# Altium footprint library PcbLib1.PcbLib: 264 footprints (part 10 of 17)
Each footprint in its own frame and in the unit in brackets; x right, y up, seen from the top. Pads: shape width x height; smd on the part's side, far side on the other; paste and mask are expansions set on the pad; w line width, h text height; cw(c..) or ccw(c..) is an arc to the next point about the centre after c.
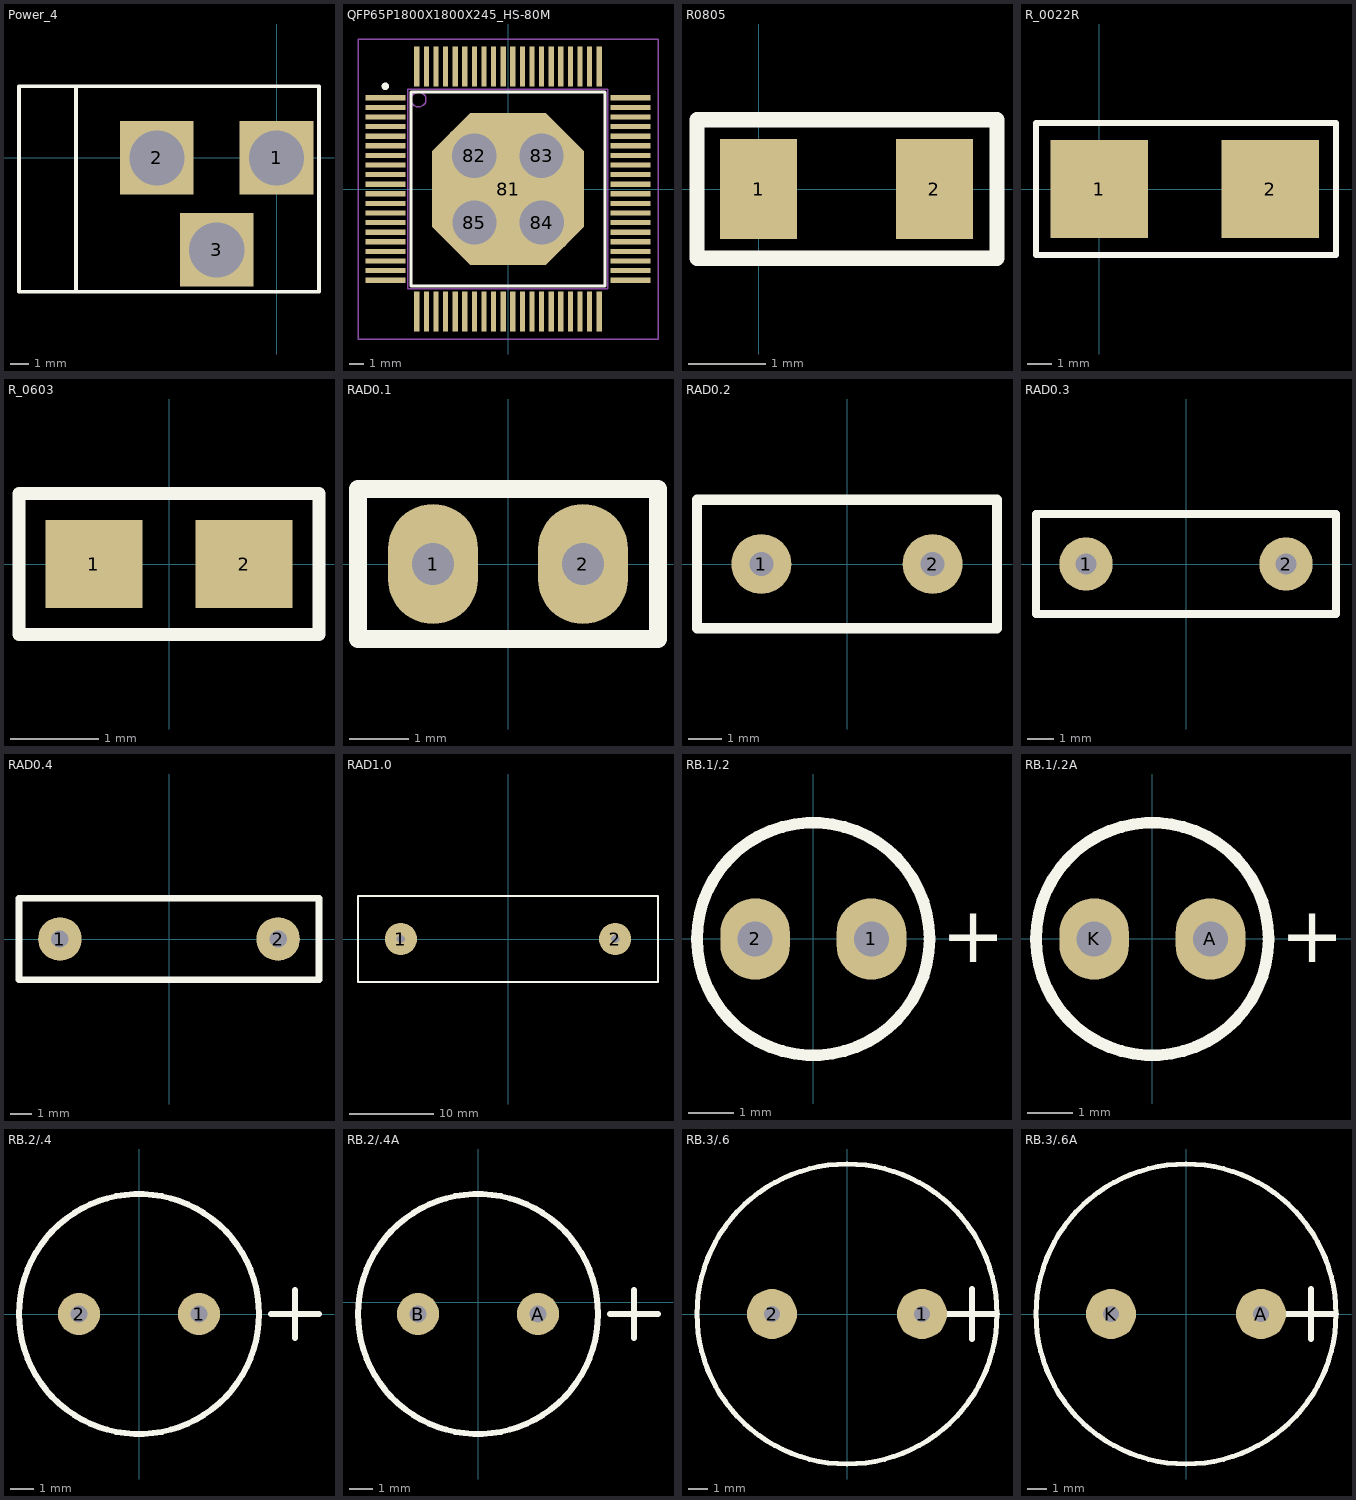
[diagram p9: the footprints below, top view; thin cyan lines are the x and y axes]

## Power_4 [mm]
pads (3):
  rect 4x4 hole 3: 1(0,0) 2(-6.5,0) 3(-3.25,-5)
Top Overlay:
  lines w0.2: -10.9,-7.27 -10.9,3.89 ; -14,-7.27 -14,3.89 2.31,3.89 2.31,-7.27 -14,-7.27

## QFP65P1800X1800X245_HS-80M [mm] "QFP, 80-Leads, Body 18.0x18.0mm (max), Pitch 0.65mm, IPC Low Density"
height 2.45
pads (85):
  rect 2.7x0.35 smd: 1(-8.3,6.175) 2(-8.3,5.525) 3(-8.3,4.875) 4(-8.3,4.225) 5(-8.3,3.575) 6(-8.3,2.925) 7(-8.3,2.275) 8(-8.3,1.625) 9(-8.3,0.975) 10(-8.3,0.325) 11(-8.3,-0.325) 12(-8.3,-0.975) 13(-8.3,-1.625) 14(-8.3,-2.275) 15(-8.3,-2.925) 16(-8.3,-3.575) 17(-8.3,-4.225) 18(-8.3,-4.875) 19(-8.3,-5.525) 20(-8.3,-6.175) 41(8.3,-6.175) 42(8.3,-5.525) 43(8.3,-4.875) 44(8.3,-4.225) 45(8.3,-3.575) 46(8.3,-2.925) 47(8.3,-2.275) 48(8.3,-1.625) 49(8.3,-0.975) 50(8.3,-0.325) 51(8.3,0.325) 52(8.3,0.975) 53(8.3,1.625) 54(8.3,2.275) 55(8.3,2.925) 56(8.3,3.575) 57(8.3,4.225) 58(8.3,4.875) 59(8.3,5.525) 60(8.3,6.175)
  rect 0.35x2.7 smd: 21(-6.175,-8.3) 22(-5.525,-8.3) 23(-4.875,-8.3) 24(-4.225,-8.3) 25(-3.575,-8.3) 26(-2.925,-8.3) 27(-2.275,-8.3) 28(-1.625,-8.3) 29(-0.975,-8.3) 30(-0.325,-8.3) 31(0.325,-8.3) 32(0.975,-8.3) 33(1.625,-8.3) 34(2.275,-8.3) 35(2.925,-8.3) 36(3.575,-8.3) 37(4.225,-8.3) 38(4.875,-8.3) 39(5.525,-8.3) 40(6.175,-8.3) 61(6.175,8.3) 62(5.525,8.3) 63(4.875,8.3) 64(4.225,8.3) 65(3.575,8.3) 66(2.925,8.3) 67(2.275,8.3) 68(1.625,8.3) 69(0.975,8.3) 70(0.325,8.3) 71(-0.325,8.3) 72(-0.975,8.3) 73(-1.625,8.3) 74(-2.275,8.3) 75(-2.925,8.3) 76(-3.575,8.3) 77(-4.225,8.3) 78(-4.875,8.3) 79(-5.525,8.3) 80(-6.175,8.3)
  oct 10.3x10.3 smd: 81(0,0)
  round 4.5 hole 3: 82(-2.28,2.25) 83(2.27,2.24) 84(2.28,-2.27) 85(-2.27,-2.27)
Top Overlay:
  circle w0.25: c-8.3,6.95 r0.125
  lines w0.2: -6.55,-6.55 6.55,-6.55 6.55,6.55 -6.55,6.55 -6.55,-6.55
Mechanical 13:
  circle w0.1: c-6.05,6.05 r0.5
  lines w0.1: -6.77,-6.75 6.75,-6.75 6.75,6.75 -6.77,6.75 -6.77,-6.75
Mechanical 15:
  lines w0.1: -0.5,0 0.5,0 ; 0,-0.5 0,0.5 ; -10.15,-10.15 10.15,-10.15 10.15,10.15 -10.15,10.15 -10.15,-10.15
3D body: height 2.45, standoff 0.25, extent -7,-7 7,7

## R0805 [mm]
pads (2):
  rect 1x1.3 smd: 1(0,0) 2(2.286,0)
Top Overlay:
  lines w0.2: -0.8,-0.9 -0.8,0.9 3.1,0.9 3.1,-0.9 -0.8,-0.9

## R_0022R [mm]
pads (2):
  rect 4x4 smd: 1(0,0) 2(7,0)
Top Overlay:
  lines w0.254: -2.6,-2.7 -2.6,2.7 9.7,2.7 9.7,-2.7 -2.6,-2.7

## R_0603 [mm]
pads (2):
  rect 1.1x1 smd: 1(-0.85,0) 2(0.85,0)
Top Overlay:
  lines w0.15: -1.7,-0.8 0.4,-0.8 1.7,-0.8 1.7,0.8 0.4,0.8 -1.7,0.8 -1.7,-0.8

## RAD0.1 [mil]
pads (2):
  oval 60x80 hole 28: 1(-50,0) 2(50,0)
Top Overlay:
  lines w12: -100,-50 100,-50 100,50 -100,50 -100,-50

## RAD0.2 [mil]
pads (2):
  round 70 hole 28: 1(-100,0) 2(100,0)
Top Overlay:
  lines w12: -175,-75 -175,75 175,75 175,-75 -175,-75

## RAD0.3 [mil]
pads (2):
  round 80 hole 32: 1(-150,0) 2(150,0)
Top Overlay:
  lines w12: -225,-75 225,-75 225,75 -225,75 -225,-75

## RAD0.4 [mil]
pads (2):
  round 80 hole 32: 1(-200,0) 2(200,0)
Top Overlay:
  lines w12: -275,-75 275,-75 275,75 -275,75 -275,-75

## RAD1.0 [mil]
pads (2):
  round 150 hole 39: 1(-500,0) 2(500,0)
Top Overlay:
  lines w10: -700,-200 -500,-200 500,-200 700,-200 700,200 500,200 -500,200 -700,200 -700,-200

## RB.1/.2 [mil]
pads (2):
  oval 60x70 hole 30: 1(50,0) 2(-50,0)
Top Overlay:
  circle w10: c0,0 r100
  text "+" at 110,-20 h48

## RB.1/.2A [mil]
pads (2):
  oval 60x70 hole 30: A(50,0) K(-50,0)
Top Overlay:
  circle w10: c0,0 r100
  text "+" at 110,-20 h48

## RB.2/.4 [mil]
pads (2):
  round 70 hole 28: 1(100,0) 2(-100,0)
Top Overlay:
  circle w10: c0,0 r200
  lines w10: 220,0 300,0 ; 260,-40 260,40

## RB.2/.4A [mil]
pads (2):
  round 70 hole 28: A(100,-20) B(-100,-20)
Top Overlay:
  circle w10: c0,-20 r200
  lines w10: 220,-20 300,-20 ; 260,-60 260,20

## RB.3/.6 [mil]
pads (2):
  round 100 hole 32: 1(150,0) 2(-150,0)
Top Overlay:
  circle w10: c0,0 r300
  lines w12: 200,0 300,0 ; 250,-50 250,50

## RB.3/.6A [mil]
pads (2):
  round 100 hole 32: A(150,0) K(-150,0)
Top Overlay:
  circle w10: c0,0 r300
  lines w12: 200,0 300,0 ; 250,-50 250,50